# EAGLE library part LT1014 (library work)
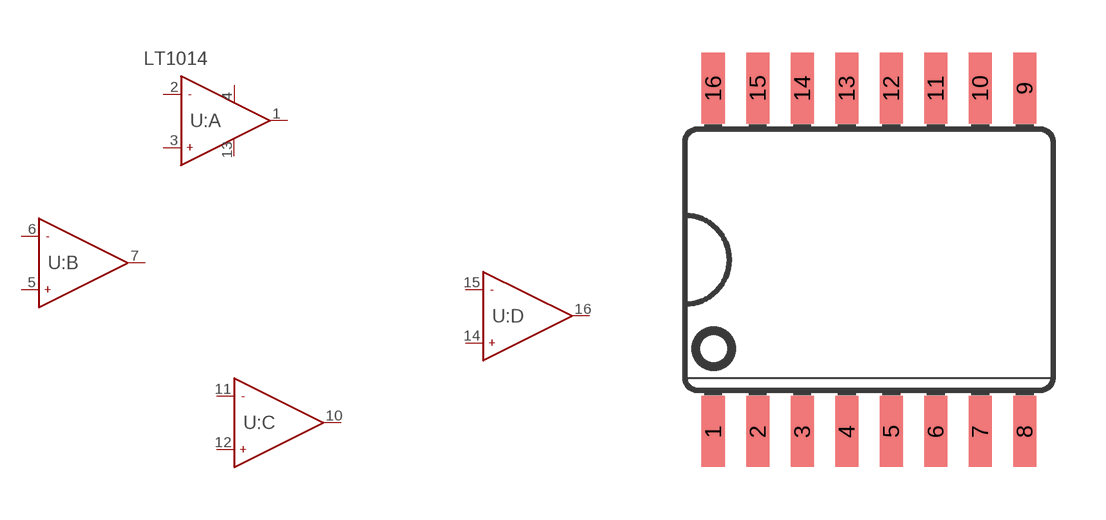
[diagram p55: symbol with the pads of SOIC-16; footprint SOIC-16]

Designator prefix U; gates :A=LT1014A :B=LT1014B :C=LT1014C :D=LT1014D

## LT1014DIDW  [SOIC-16]
1  :A:1OUT
2  :A:1-
3  :A:1+
4  :A:V+
5  :B:2+
6  :B:2-
7  :B:2OUT
10  :C:3OUT
11  :C:3-
12  :C:3+
13  :A:V-
14  :D:4+
15  :D:4-
16  :D:4OUT

## Footprint SOIC-16 (pad centres in mm)
smd 0.66 x 2.032: 1 -4.46,-4.902; 2 -3.19,-4.902; 3 -1.92,-4.902; 4 -0.65,-4.902; 5 0.62,-4.902; 6 1.89,-4.902; 7 3.16,-4.902; 8 4.43,-4.902; 9 4.43,4.902; 10 3.16,4.902; 11 1.89,4.902; 12 0.62,4.902; 13 -0.65,4.902; 14 -1.92,4.902; 15 -3.19,4.902; 16 -4.46,4.902